# EAGLE library part SI1114 (library ModernDevicebak2)
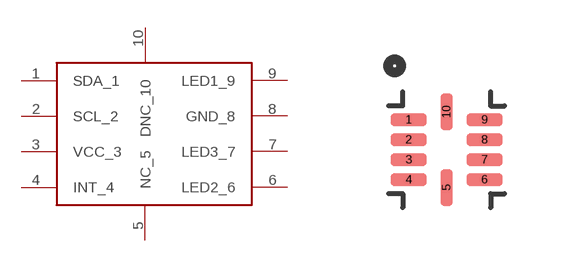
[diagram p48: symbol with the pads of MD_QFN10; footprint MD_QFN10]

Designator prefix -

## SI1114  [MD_QFN10]
1  SDA_1
2  SCL_2
3  VCC_3
4  INT_4
5  NC_5
6  LED2_6
7  LED3_7
8  GND_8
9  LED1_9
10  DNC_10

## Footprint MD_QFN10 (pad centres in mm)
32M1-A Micro Lead Frame package (MLF)
smd 0.9 x 0.3: 1 -0.95,0.75; 2 -0.95,0.25; 3 -0.95,-0.25; 4 -0.95,-0.75; 6 0.95,-0.75; 7 0.95,-0.25; 8 0.95,0.25; 9 0.95,0.75
smd 0.3 x 0.9: 5 0,-0.95; 10 0,0.95